# EAGLE library part RD* (library NewSDR)
Silicon MOSFET Power Transistor 100W
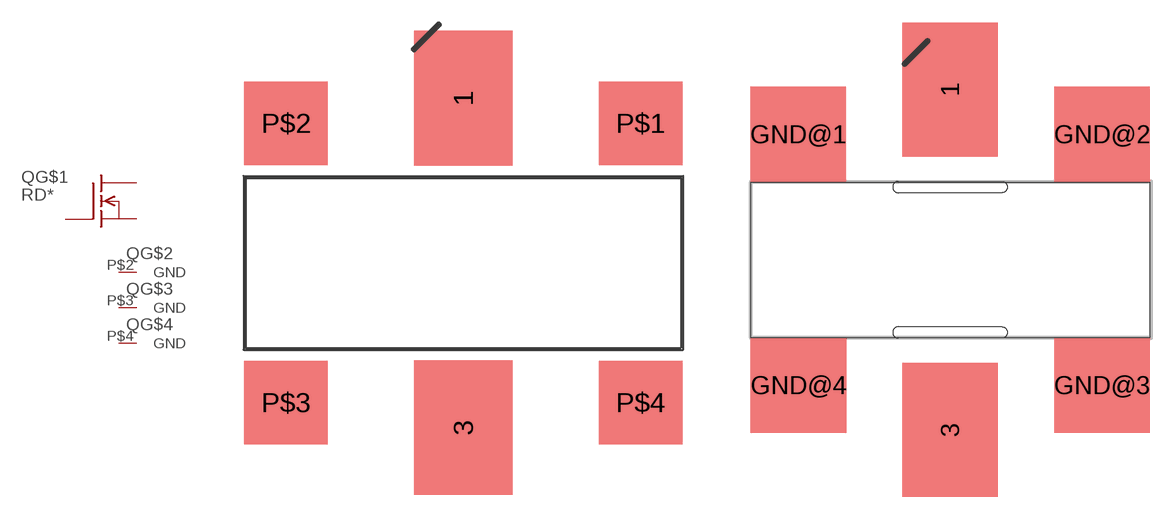
[diagram p66: symbol with the pads of RD70/100; footprints RD70/100, RD70/100_PLATED]

Designator prefix Q; gates G$1=NCHAN_MOSFET G$2=GND-1 G$3=GND-1 G$4=GND-1

## RD100NPT, RD70NPT  [RD70/100]
1  G$1:D  pas
3  G$1:G  pas
P$1  G$1:S1  pas
P$2  G$2:GND  pwr
P$3  G$3:GND  pwr
P$4  G$4:GND  pwr

## RD100HHF1PT, RD70HHF1PT  [RD70/100_PLATED]
1  G$1:D  pas
3  G$1:G  pas
GND@1  G$1:S1  pas
GND@2  G$2:GND  pwr
GND@3  G$3:GND  pwr
GND@4  G$4:GND  pwr

## RD100HHF1-NC, RD70HHF1-NC  [RD70/100_NO_CUTOUT]
Pads as for RD70/100_PLATED

## Footprint RD70/100 (pad centres in mm)
Mitsubishi RD70/100 RF Power MOSFET Package
smd 6 x 8.2: 1 0,10.035; 3 0,-10.035
smd 5.08 x 5.08: P$1 10.795,8.509; P$2 -10.795,8.509; P$3 -10.795,-8.509; P$4 10.795,-8.509

## Footprint RD70/100_PLATED (pad centres in mm)
RD70/100 footprint with pated internal slot
smd 6.35 x 8.89: 1 0,11.305; 3 0,-11.305
smd 6.35 x 6.35: GND@1 -10.084,8.331; GND@2 10.084,8.331; GND@3 10.084,-8.331; GND@4 -10.058,-8.331

## Footprint RD70/100_NO_CUTOUT (pad centres in mm)
RD70/100 with no internal routing
smd 6.096 x 6.35: 1 0,10.033; 3 0,-10.033
smd 5.08 x 5.715: GND@1 -11.328,8.649; GND@2 11.328,8.649; GND@3 11.328,-8.649; GND@4 -11.328,-8.649